# Altium footprint library GCMLibreriasPCB.PcbLib: 49 footprints (part 4 of 4)
Each footprint in its own frame and in the unit in brackets; x right, y up, seen from the top. Pads: shape width x height; smd on the part's side, far side on the other; paste and mask are expansions set on the pad; w line width, h text height; cw(c..) or ccw(c..) is an arc to the next point about the centre after c.
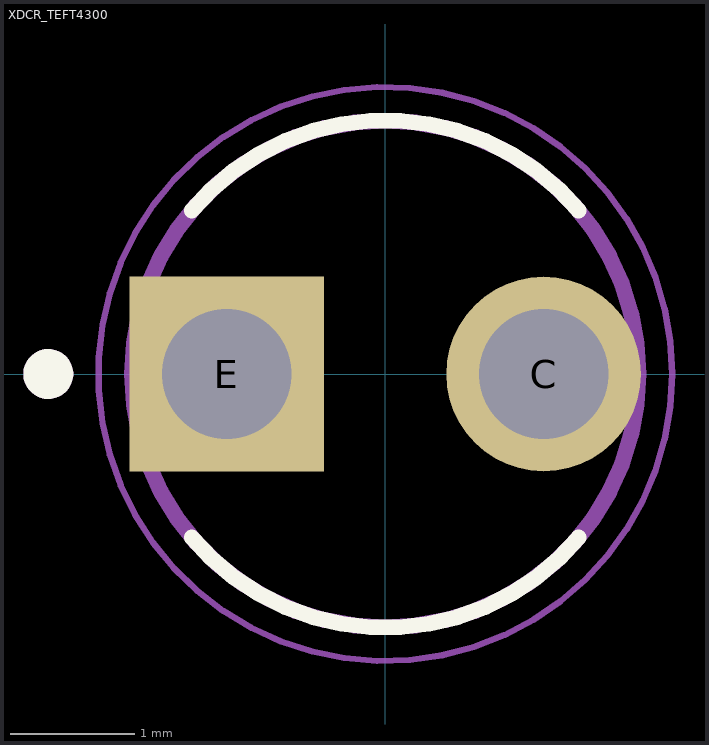
[diagram p3: the footprint, top view; thin cyan lines are the x and y axes]

## XDCR_TEFT4300 [mm]
height 6.1
pads (2):
  round 1.56 hole 1.04: C(1.27,0)
  rect 1.56x1.56 / inner round 1.56 / far side rect 1.56x1.56 hole 1.04: E(-1.27,0)
Top Overlay:
  circle w0.2: c-2.7,0 r0.1
  lines w0.127: -1.55,-1.31 ccw(c0,-0.009) 1.55,-1.31 ; -1.55,1.31 cw(c0,0.009) 1.55,1.31
Mechanical 13:
  circle w0.127: c0,0 r2.03
  circle w0.2: c-2.7,0 r0.1
Mechanical 15:
  circle w0.05: c0,0 r2.3
3D body "step_temp.STEP": height 6.1, standoff -28.8, extent -1.6,-1.95 1.6,1.95